# Altium schematic symbol library CONNECTER.SchLib: 2 symbols
Pins are listed as number, name and electrical type; pins without a type are passive.

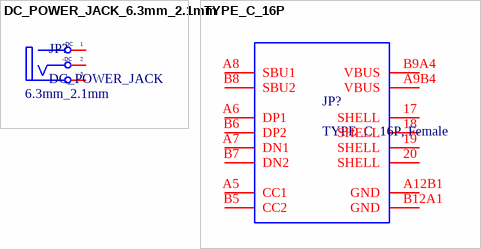
[diagram p0: symbols DC_POWER_JACK_6.3mm_2.1mm to TYPE_C_16P]

## DC_POWER_JACK_6.3mm_2.1mm
designator JP?, comment DC_POWER_JACK  Reference: 6.3mm_2.1mm
Right Angle DC Power Jack -40℃~+85℃ 2.1mm 6.3mm 3A 500V Through Hole DC Power Connectors ROHS; Manufacturer: Lian Xin Technology; Mfr. Part: XDJK-0051-025; LCSC Part: C7498153; Package: Through Hole; Current Rating-Power: 3A; Link: https://www.lcsc.com/product-detail/C7498153.html?s_z=n_XDJK-0051-025; Connector Type: DC Power Jack; Operating Temperature: -40℃~+85℃; Inside Contact Diameter: 2.1mm; Outside Contact Diameter: 6.3mm; Current Rating: 3A; Voltage Rating (Max): 500V
footprint DC_POWER_JACK_6.3mm_2.1mm
pins: 1 T "Tip", 2 TN "Tip Normal (Break Contact)", 3 S (power) "Sleeve (Ground)"
text: +DC; -DC

## TYPE_C_16P
designator JP?, comment TYPE_C_16P, Female
3A USB 3.1 1 Surface Mount, Right Angle 16P Female -40℃~+85℃ Type-C SMD USB Connectors ROHS; Manufacturer: SHOU HAN; Mfr. Part: TYPE-C-3.1-16PIN; Protocol Standard: USB 3.1; LCSC Part: C7507405; Package: SMD; Current Rating-Power: 3A; Mounting Type: Surface Mount, Right Angle; Number of Contacts: 16P; Gender: Female; Operating Temperature: -40℃~+85℃; Link: https://www.lcsc.com/product-detail/C7507405.html?s_z=n_SHOU%2520HAN%2520TYPE-C-3.1-16PIN
footprint TYPE_C_16P
pins: 17 SHELL, 18 SHELL, 19 SHELL, 20 SHELL, A5 CC1, A6 DP1, A7 DN1, A8 SBU1, A9B4 VBUS, A12B1 GND, B5 CC2, B6 DP2, B7 DN2, B8 SBU2, B9A4 VBUS, B12A1 GND